# Altium schematic symbol library STM32_1.SchLib: 3 symbols
Pins are listed as number, name and electrical type; pins without a type are passive.

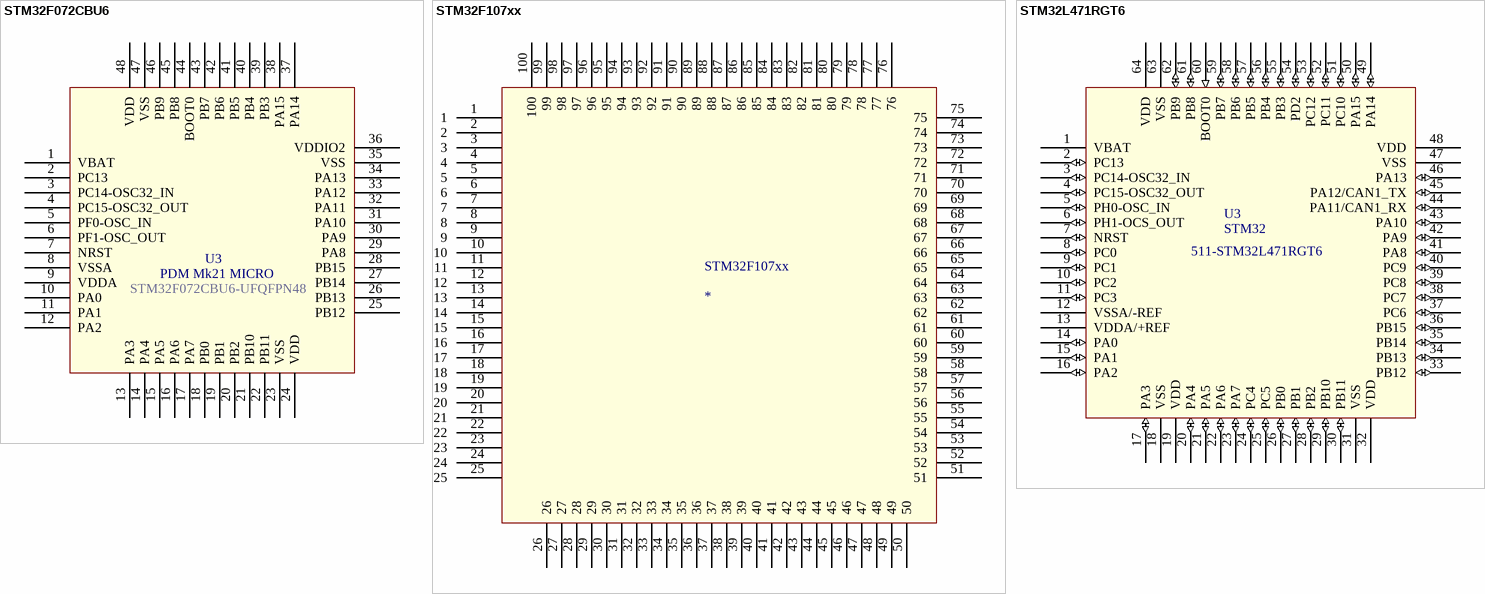
[diagram p0: symbols STM32F072CBU6 to STM32L471RGT6]

## STM32F072CBU6
designator U3, comment PDM Mk21 MICRO  Part Number: STM32F072CBU6-UFQFPN48
Manufacturer: ST Microelectrics; Supplier: RS Components
footprint STM32F072CBU6 - duplicate (STMicroelectronics STM32F072CBU6, 32bit ARM Cortex M0 Microcontroller, 48MHz, 64 kB, 128 kB Flash, 48-Pin UFQFPN)
footprint STM32F072CBU6 - duplicate (STMicroelectronics STM32F072CBU6, 32bit ARM Cortex M0 Microcontroller, 48MHz, 64 kB, 128 kB Flash, 48-Pin UFQFPN)
pins: 1 VBAT, 2 PC13, 3 PC14-OSC32_IN, 4 PC15-OSC32_OUT, 5 PF0-OSC_IN, 6 PF1-OSC_OUT, 7 NRST, 8 VSSA, 9 VDDA, 10 PA0, 11 PA1, 12 PA2, 13 PA3, 14 PA4, 15 PA5, 16 PA6, 17 PA7, 18 PB0, 19 PB1, 20 PB2, 21 PB10, 22 PB11, 23 VSS, 24 VDD, 25 PB12, 26 PB13, 27 PB14, 28 PB15, 29 PA8, 30 PA9, 31 PA10, 32 PA11, 33 PA12, 34 PA13, 35 VSS, 36 VDDIO2, 37 PA14, 38 PA15, 39 PB3, 40 PB4, 41 PB5, 42 PB6, 43 PB7, 44 BOOT0, 45 PB8, 46 PB9, 47 VSS, 48 VDD

## STM32F107xx
designator STM32F107xx
footprint LQFP100
pins: 1, 2, 3, 4, 5, 6, 7, 8, 9, 10, 11, 12, 13, 14, 15, 16, 17, 18, 19, 20, 21, 22, 23, 24, 25, 26, 27, 28, 29, 30, 31, 32, 33, 34, 35, 36, 37, 38, 39, 40, 41, 42, 43, 44, 45, 46, 47, 48, 49, 50, 51, 52, 53, 54, 55, 56, 57, 58, 59, 60, 61, 62, 63, 64, 65, 66, 67, 68, 69, 70, 71, 72, 73, 74, 75, 76, 77, 78, 79, 80, 81, 82, 83, 84, 85, 86, 87, 88, 89, 90, 91, 92, 93, 94, 95, 96, 97, 98, 99, 100

## STM32L471RGT6
designator U3, comment STM32  Supplier Part Number 1: 511-STM32L471RGT6
MICROCONTROLLER; Supplier 1: Mouser
footprint Quad64
pins: 1 VBAT (power), 2 PC13 (io), 3 PC14-OSC32_IN (io), 4 PC15-OSC32_OUT (io), 5 PH0-OSC_IN (io), 6 PH1-OCS_OUT (io), 7 NRST (io), 8 PC0 (io), 9 PC1 (io), 10 PC2 (io), 11 PC3 (io), 12 VSSA/-REF (power), 13 VDDA/+REF (power), 14 PA0 (io), 15 PA1 (io), 16 PA2 (io), 17 PA3 (io), 18 VSS (power), 19 VDD (power), 20 PA4 (io), 21 PA5 (io), 22 PA6 (io), 23 PA7 (io), 24 PC4 (io), 25 PC5 (io), 26 PB0 (io), 27 PB1 (io), 28 PB2 (io), 29 PB10 (io), 30 PB11 (io), 31 VSS (power), 32 VDD (power), 33 PB12 (io), 34 PB13 (io), 35 PB14 (io), 36 PB15 (io), 37 PC6 (io), 38 PC7 (io), 39 PC8 (io), 40 PC9 (io), 41 PA8 (io), 42 PA9 (io), 43 PA10 (io), 44 PA11/CAN1_RX (io), 45 PA12/CAN1_TX (io), 46 PA13 (io), 47 VSS (power), 48 VDD (power), 49 PA14 (io), 50 PA15 (io), 51 PC10 (io), 52 PC11 (io), 53 PC12 (io), 54 PD2 (io), 55 PB3 (io), 56 PB4 (io), 57 PB5 (io), 58 PB6 (io), 59 PB7 (io), 60 BOOT0 (in), 61 PB8 (io), 62 PB9 (io), 63 VSS (power), 64 VDD (power)